# EAGLE library part A244D (library TABOR K1)
IO pre prijimace AM signalu do 30MHz
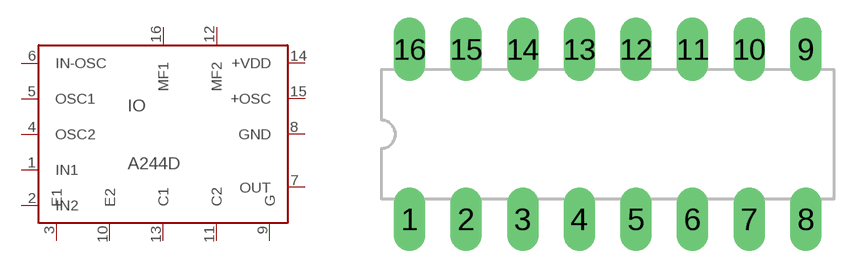
[diagram p15: symbol with the pads of DIL16; footprint DIL16]

Designator prefix IO

## A244DN  [DIL16]
1  IN1  in
2  IN2  in
3  E1  in
4  OSC2  in
5  OSC1  in
6  IN-OSC  in
7  OUT  out
8  GND  pwr
9  G  in
10  E2  in
11  C2  in
12  MF2
13  C1  in
14  +VDD  pwr
15  +OSC  pwr
16  MF1

## Footprint DIL16 (pad centres in mm)
Púzdro DIL16 : diera s pokovenim = 0,6 mm, vrtanie = 0,8mm
drill 0.813 pad 1.422 long: 1 -8.89,-3.81; 2 -6.35,-3.81; 3 -3.81,-3.81; 4 -1.27,-3.81; 5 1.27,-3.81; 6 3.81,-3.81; 7 6.35,-3.81; 8 8.89,-3.81; 9 8.89,3.81; 10 6.35,3.81; 11 3.81,3.81; 12 1.27,3.81; 13 -1.27,3.81; 14 -3.81,3.81; 15 -6.35,3.81; 16 -8.89,3.81